# Altium footprint library packages.PcbLib: 2 footprints
Each footprint in its own frame and in the unit in brackets; x right, y up, seen from the top. Pads: shape width x height; smd on the part's side, far side on the other; paste and mask are expansions set on the pad; w line width, h text height; cw(c..) or ccw(c..) is an arc to the next point about the centre after c.
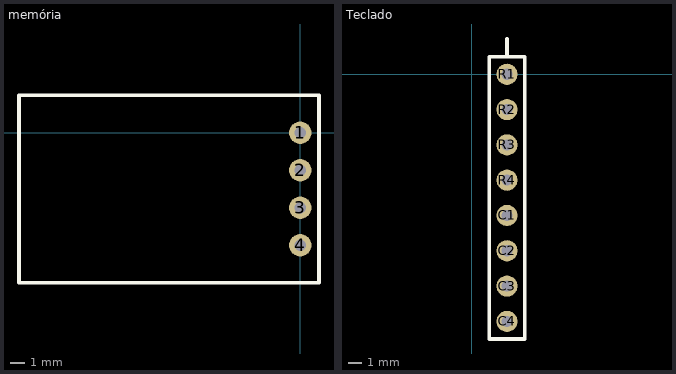
[diagram p0: the footprints below, top view; thin cyan lines are the x and y axes]

## memória [mil] "AT24CXX"
pads (4):
  round 60 hole 31.5: 1(0,0) 2(0,-100) 3(0,-200) 4(0,-300)
Top Overlay:
  lines w10: -750,-400 -750,-350 -750,100 50,100 50,-350 50,-400 -750,-400

## Teclado [mil] "teclado 4x4 HX-543"
pads (8):
  round 60 hole 31.5: C1(100,-400) C2(100,-500) C3(100,-600) C4(100,-700) R1(100,0) R2(100,-100) R3(100,-200) R4(100,-300)
Top Overlay:
  lines w10: 100,50 100,100 ; 50,-750 50,50 150,50 150,-750 50,-750